# Altium footprint library Ohmite.PcbLib: 2 footprints
Each footprint in its own frame and in the unit in brackets; x right, y up, seen from the top. Pads: shape width x height; smd on the part's side, far side on the other; paste and mask are expansions set on the pad; w line width, h text height; cw(c..) or ccw(c..) is an arc to the next point about the centre after c.
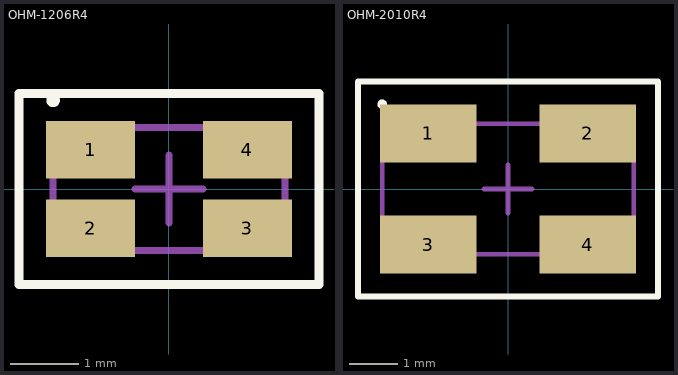
[diagram p0: the footprints below, top view; thin cyan lines are the x and y axes]

## OHM-1206R4 [mm] "DFN, 4-Leads, Body 1.60x3.20mm, Pitch 2.20mm, IPC Low Density"
height 0.65
pads (4):
  rect 1.3x0.85 smd: 1(-1.151,0.576) 2(-1.151,-0.576) 3(1.151,-0.576) 4(1.151,0.576)
Top Overlay:
  circle w0.1: c-1.7,1.3 r0.05
  lines w0.127: -2.2,-1.4 2.2,-1.4 2.2,1.4 -2.2,1.4 -2.2,-1.4
Mechanical 13:
  lines w0.1: -1.7,-0.9 1.7,-0.9 1.7,0.9 -1.7,0.9 -1.7,-0.9
Mechanical 15:
  lines w0.05: -2.2,-1.4 -2.2,1.4 2.2,1.4 2.2,-1.4 -2.2,-1.4
  lines w0.1: -0.5,0 0.5,0 ; 0,-0.5 0,0.5
3D body: height 0.65, standoff 0, extent -1.7,-0.9 1.7,0.9

## OHM-2010R4 [mm] "DFN, 4-Leads, Body 2.50x5.00mm, Pitch 3.30mm, IPC Low Density"
height 0.65
pads (4):
  rect 2x1.2 smd: 1(-1.65,1.15) 2(1.65,1.15) 3(-1.65,-1.15) 4(1.65,-1.15)
Top Overlay:
  circle w0.1: c-2.6,1.75 r0.05
  lines w0.127: -3.1,-2.221 3.1,-2.221 3.1,2.221 -3.1,2.221 -3.1,-2.221
Mechanical 13:
  lines w0.1: -2.6,-1.35 2.6,-1.35 2.6,1.35 -2.6,1.35 -2.6,-1.35
Mechanical 15:
  lines w0.05: -3.1,-2.221 -3.1,2.221 3.1,2.221 3.1,-2.221 -3.1,-2.221
  lines w0.1: -0.5,0 0.5,0 ; 0,-0.5 0,0.5
3D body: height 0.65, standoff 0, extent -2.6,-1.35 2.6,1.35